# EAGLE library part K-USB- (library elpp-smt-v1.1)
USB A connectors, shielded
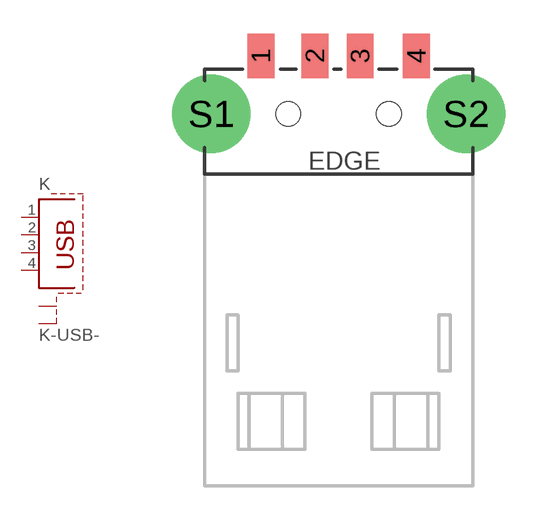
[diagram p2: symbol with the pads of ELPP-USB-A-PLUG-SMT; footprint ELPP-USB-A-PLUG-SMT]

Designator prefix K

## K-USB-A-PLUG (FARNELL: 1696546; RS: 7378795)  [ELPP-USB-A-PLUG-SMT]
1  1  pas
2  2  pas
3  3  pas
4  4  pas
S1  S1  pas
S2  S2  pas

## Footprint ELPP-USB-A-PLUG-SMT (pad centres in mm)
USB-A plug, SMT.
smd 1.2 x 2: 1 -3.47,2.6; 2 -1.05,2.6; 3 0.97,2.6; 4 3.49,2.6
drill 2.5: S1 -5.7,0; S2 5.7,0
hole 1.1 at -2.25,0
hole 1.1 at 2.25,0